# Altium footprint library TR8.PcbLib: 78 footprints (part 2 of 5)
Each footprint in its own frame and in the unit in brackets; x right, y up, seen from the top. Pads: shape width x height; smd on the part's side, far side on the other; paste and mask are expansions set on the pad; w line width, h text height; cw(c..) or ccw(c..) is an arc to the next point about the centre after c.
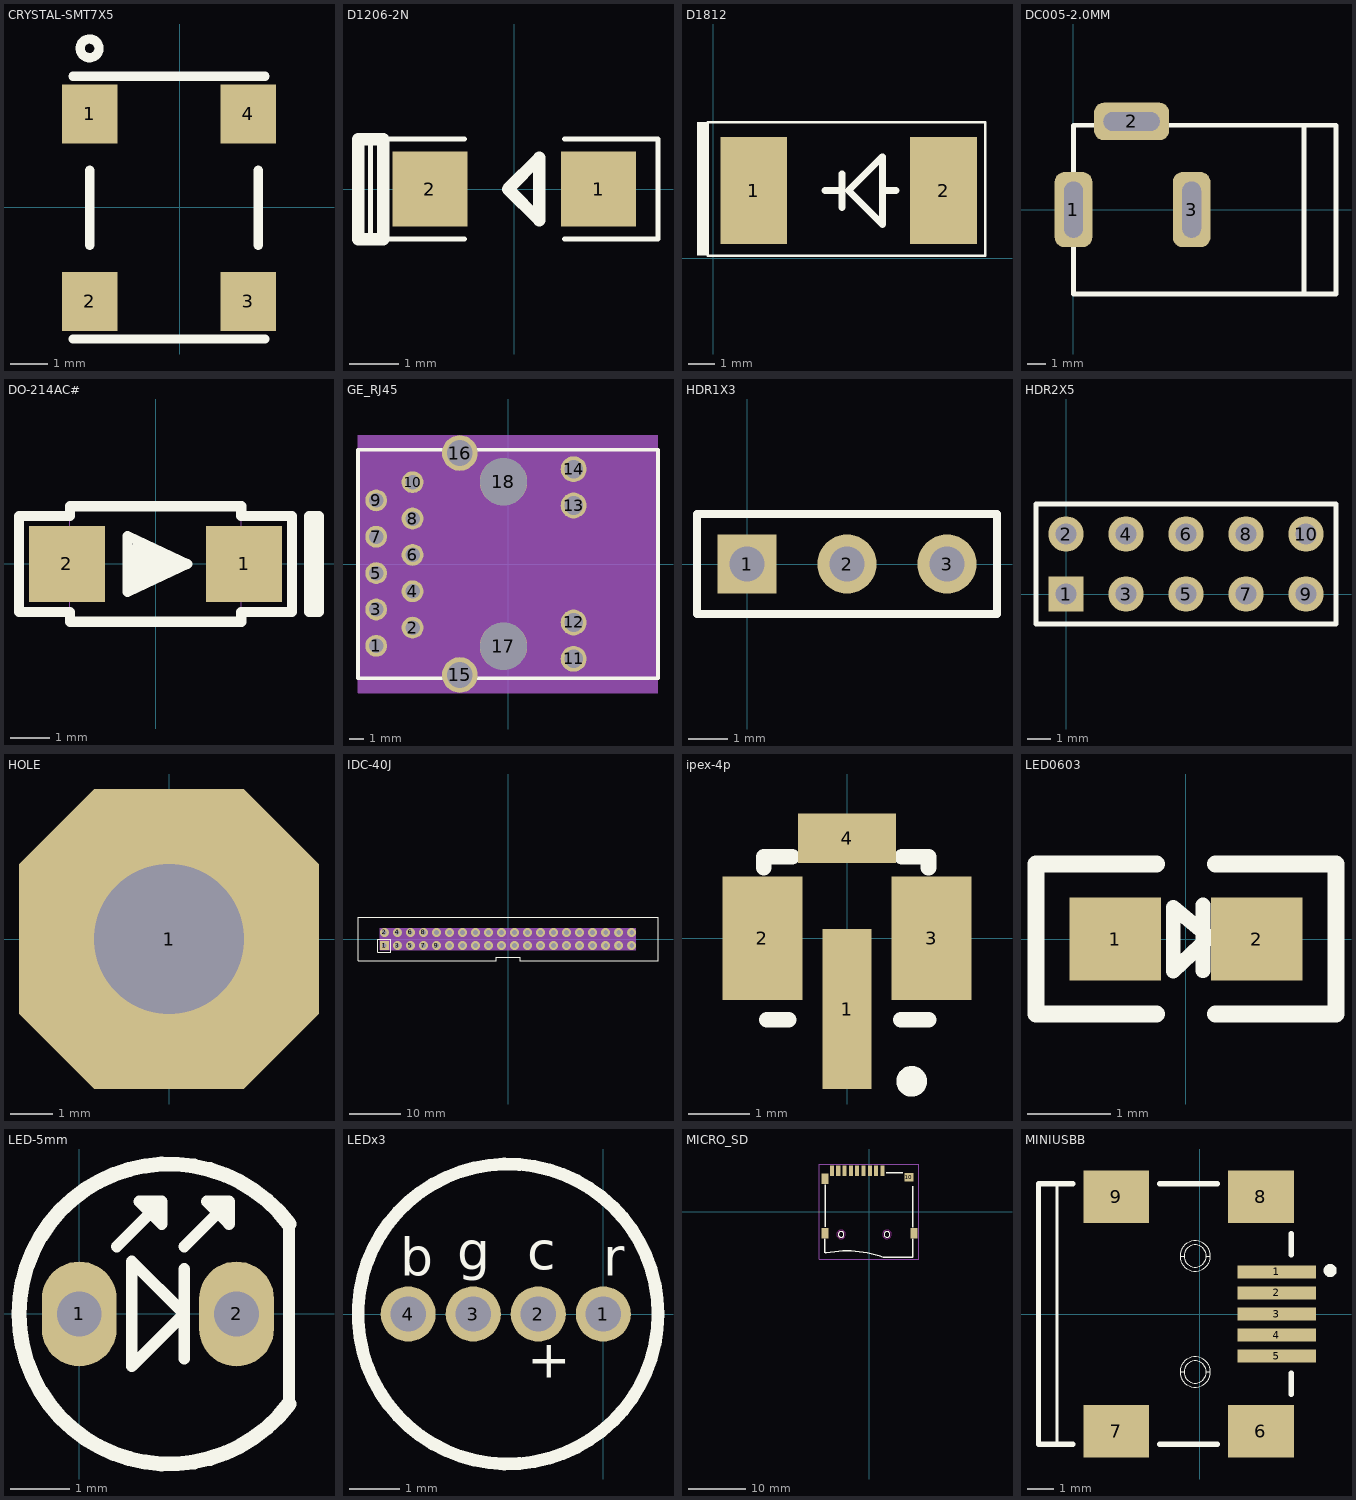
[diagram p1: the footprints below, top view; thin cyan lines are the x and y axes]

## CRYSTAL-SMT7X5 [mm]
pads (4):
  rect 1.5x1.6 smd: 1(-2.438,2.527) 2(-2.438,-2.553) 3(1.862,-2.553) 4(1.862,2.527)
Top Overlay:
  circle w0.25: c-2.438,4.303 r0.254
  lines w0.254: -2.888,-3.569 2.312,-3.569 ; -2.888,3.543 2.312,3.543 ; -2.438,-1.029 -2.438,1.003 ; 2.134,-1.029 2.134,1.003

## D1206-2N [mil] ",Pin2-Negative"
height 39.37
pads (2):
  rect 60x60 smd: 1(67.5,0) 2(-67.5,0)
Top Overlay:
  lines w4: -40,-40 -115,-40 -115,40 -40,40 ; 40,-40 115,-40 115,40 40,40
  lines w10: -125,-40 -105,-40 -105,40 -125,40 -125,-40 ; -5,0 20,25 20,-25 -5,0

## D1812 [mm] ",Pin1-Negative"
pads (2):
  rect 2.5x4 smd: 1(1.524,2.54) 2(8.636,2.54)
Top Overlay:
  rectangle: -0.6,0.1 -0.2,5.1
  lines w0.102: -0.2,0.1 3.3,0.1 10.2,0.1 10.2,5.1 3.3,5.1 0.1,5.1 -0.2,5.1 -0.2,0.1
  lines w0.254: 4.191,2.54 4.826,2.54 ; 4.826,1.905 4.826,3.175 ; 6.35,2.54 6.858,2.54 ; 5.08,2.54 6.35,3.81 6.35,1.27 5.08,2.54

## DC005-2.0MM [mm] "DC005-2.0"
pads (3):
  rrect50% 2x4 hole 3 slot 1 at 0 deg: 1(0,0) 3(6.3,0)
  rrect50% 4x2 hole 3 slot 1 at 90 deg: 2(3.1,4.7)
Top Overlay:
  lines w0.254: 12.3,-4.5 12.3,4.5 ; 0,-4.5 0,4.5 14,4.5 14,-4.5 0,-4.5

## DO-214AC# [mil] "Pin1负，高1.91-2.67"
height 90.16
pads (2):
  rect 75x75 smd: 1(87.5,0) 2(-87.5,0)
Top Overlay:
  lines w10: -18.11,-21.65 -18.11,-4.33 -14.96,-13.78 -5.91,-6.3 15.35,-6.3 -24.02,2.76 20.87,2.76 7.28,10.83 -24.02,10.83 -16.24,18.6 ; -134.84,-47.24 -84.65,-47.24 -84.65,-57.09 84.65,-57.09 84.65,-47.24 134.84,-47.24 134.84,47.24 84.65,47.24 84.65,57.09 -84.65,57.09 -84.65,47.24 -134.84,47.24 -134.84,-47.24 ; -27.56,-27.56 31.5,0 -27.56,27.56 -27.56,-27.56 ; 151.57,-47.24 161.42,-47.24 161.42,47.24 151.57,47.24 151.57,-47.24
Mechanical 16:
  lines w1: -98.43,-29.53 -98.43,29.53 -51.18,29.53 -51.18,-29.53 -98.43,-29.53 ; -84.65,-53.15 -84.65,53.15 84.65,53.15 84.65,-53.15 -84.65,-53.15 ; 51.18,-29.53 51.18,29.53 98.43,29.53 98.43,-29.53 51.18,-29.53
  lines w1.97: 0,3.94 0,0 3.94,0
3D body "DO-214AC.STEP": height 94.49, standoff 0, extent -91.05,-53.08 90.05,53.22

## GE_RJ45 [mil] "GE_RJ45"
pads (18):
  round 60 hole 40: 1(-362.5,-225.01) 2(-262.5,-175.01) 3(-362.5,-125.01) 4(-262.5,-75.01) 5(-362.5,-25.01) 6(-262.5,24.99) 7(-362.5,74.99) 8(-262.5,124.99) 9(-362.5,174.99) 10(-262.5,224.99)
  round 70.87 hole 51.18: 11(180.41,-260.82) 12(180.41,-160.82) 13(180.41,160.82) 14(180.41,260.82)
  round 98 hole 70.87: 15(-132.58,-305.12) 16(-132.58,305.11)
  round 129.92 hole 129.92: 17(-12.5,-225.99) 18(-12.5,225.98)
Top Overlay:
  lines w10: -412.5,-314.01 412.5,-314.01 412.5,313.99 -412.5,313.99 -412.5,-314.01
Mechanical 10:
  text "P1" at -382.5,-225.01 h25
  text "13" at 160.41,160.82 h25
  text "11" at 160.41,-260.83 h25
  text "17" at -32.5,-225.99 h25
  text "18" at -32.5,225.98 h25
  text "14" at 160.41,260.82 h25
  text "16" at -152.58,305.11 h25
  text "P10" at -292.5,224.99 h25
  text "12" at 160.41,-160.83 h25
  text "15" at -152.58,-305.12 h25
  text "P8" at -282.5,124.99 h25
  text "P4" at -282.5,-75.01 h25
  text "P7" at -382.5,74.99 h25
  text "P9" at -382.5,174.99 h25
  text "P2" at -282.5,-175.01 h25
  text "P5" at -382.5,-25.01 h25
  text "P3" at -382.5,-125.01 h25
  text "P6" at -282.5,24.99 h25
Mechanical 12:
  region: 412.5,-354.12 412.5,354.12 -412.5,354.12 -412.5,-354.12
Mechanical 13:
  lines w1: -412.5,-354.12 -412.5,354.12 412.5,354.12 412.5,-354.12 -412.5,-354.12
  text ".Designator" at -36.5,1.01 h25
3D body: height 150, standoff 0, extent -412.5,-354.12 412.5,354.12

## HDR1X3 [mm] "Connector; Header; 3 Position"
pads (3):
  rect 1.5x1.5 hole 0.9: 1(0,0)
  round 1.5 hole 0.9: 2(2.54,0) 3(5.08,0)
Top Overlay:
  lines w0.2: -1.27,-1.27 6.35,-1.27 6.35,1.27 -1.27,1.27 -1.27,-1.27

## HDR2X5 [mm] "Connector; Header; 5x2 Position"
pads (10):
  rect 1.5x1.5 hole 0.9: 1(0,0)
  round 1.5 hole 0.9: 2(0,2.54) 3(2.54,0) 4(2.54,2.54) 5(5.08,0) 6(5.08,2.54) 7(7.62,0) 8(7.62,2.54) 9(10.16,0) 10(10.16,2.54)
Top Overlay:
  lines w0.2: -1.27,-1.27 -1.27,3.81 11.43,3.81 11.43,-1.27 -1.27,-1.27
  text ".Designator" at 4.65,4.806 h0.64
Mechanical 10:
  text "8" at 2.579,4.45 h0.64
  text "9" at -2.921,4.45 h0.64
  text "6" at 2.579,-4.45 h0.64
  text "5" at 3.179,-1.6 h0.64
  text "7" at -2.921,-4.45 h0.64
  text "1" at 3.179,1.6 h0.64
  text "2" at 3.179,0.8 h0.64
  text "3" at 3.179,0 h0.64
  text "4" at 3.179,-0.8 h0.64

## HOLE [mm]
pads (1):
  oct 7x7 hole 3.5: 1(0,0)

## IDC-40J [mil] "IDC-40J"
pads (40):
  rect 68x68 hole 35: 1(-950,-50)
  round 68 hole 35: 2(-950,50) 3(-850,-50) 4(-850,50) 5(-750,-50) 6(-750,50) 7(-650,-50) 8(-650,50) 9(-550,-50) 10(-550,50) 11(-450,-50) 12(-450,50) 13(-350,-50) 14(-350,50) 15(-250,-50) 16(-250,50) 17(-150,-50) 18(-150,50) 19(-50,-50) 20(-50,50) 21(50,-50) 22(50,50) 23(150,-50) 24(150,50) 25(250,-50) 26(250,50) 27(350,-50) 28(350,50) 29(450,-50) 30(450,50) 31(550,-50) 32(550,50) 33(650,-50) 34(650,50) 35(750,-50) 36(750,50) 37(850,-50) 38(850,50) 39(950,-50) 40(950,50)
Top Overlay:
  lines w5: -1153.54,-166.54 -91.54,-166.54 -91,-140 90.02,-140 90.55,-166.54 1153.54,-166.54 1153.54,166.54 -1153.54,166.54 -1153.54,-166.54 ; -1000,-100 -1000,0 -900,0 -900,-100 -1000,-100
Mechanical 10:
  text "18" at -130,50 h25
  text "17" at -130,-50 h25
  text "34" at 670,50 h25
  text "33" at 670,-50 h25
  text "31" at 570,-50 h25
  text "16" at -230,50 h25
  text "11" at -430,-50 h25
  text "6" at -740,50 h25
  text "26" at 270,50 h25
  text "12" at -430,50 h25
  text "13" at -330,-50 h25
  text "28" at 370,50 h25
  text "20" at -30,50 h25
  text "5" at -740,-50 h25
  text "35" at 770,-50 h25
  text "29" at 470,-50 h25
  text "23" at 170,-50 h25
  text "36" at 770,50 h25
  text "27" at 370,-50 h25
  text "15" at -230,-50 h25
  text "14" at -330,50 h25
  text "32" at 570,50 h25
  text "19" at -30,-50 h25
  text "7" at -640,-50 h25
  text "25" at 270,-50 h25
  text "10" at -530,50 h25
  text "8" at -640,50 h25
  text "4" at -840,50 h25
  text "22" at 70,50 h25
  text "24" at 170,50 h25
  text "9" at -540,-50 h25
  text "30" at 470,50 h25
  text "3" at -840,-50 h25
  text "21" at 70,-50 h25
  text "2" at -940,50 h25
  text "39" at 970,-50 h25
  text "40" at 970,50 h25
  text "1" at -940,-50 h25
  text "37" at 870,-50 h25
  text "38" at 870,50 h25
Mechanical 12:
  region: -984,-84 984,-84 984,84 -984,84
Mechanical 13:
  lines w1: -984,-84 984,-84 984,84 -984,84 -984,-84
  text ".Designator" at -27,-2 h25
3D body: height 150, standoff 0, extent -984,-84 984,84

## ipex-4p [mm] "4 pin,pad pitch 2.6mm,cylinder 2mm"
height 1.25
pads (4):
  rect 0.8x2.6 smd: 1(0,-1.15)
  rect 1.3x2 smd: 2(-1.375,0) 3(1.375,0)
  rect 1.6x0.8 smd: 4(0,1.625)
Top Overlay:
  circle w0.25: c1.05,-2.325 r0.125
  lines w0.254: -1.35,1.143 -1.35,1.325 -0.889,1.325 ; -1.3,-1.325 -0.95,-1.325 ; 0.875,-1.325 1.325,-1.325 ; 0.889,1.325 1.325,1.325 1.325,1.143

## LED0603 [mm]
pads (2):
  rect 1.1x1 smd: 1(-0.85,0) 2(0.85,0)
Top Overlay:
  lines w0.178: 0.203,-0.381 0.203,0.406 ; -0.152,-0.383 -0.152,0.379 0.279,0.023 -0.152,-0.383
  lines w0.2: -0.35,-0.9 -1.8,-0.9 -1.8,0.9 -0.35,0.9 ; 0.35,-0.9 1.8,-0.9 1.8,0.9 0.35,0.9

## LED-5mm [mil] "dip,2pin, pitch 2.7mm, diam 5mm"
height 314.96
pads (2):
  oval 50x70 hole 30: 1(0,0) 2(105,0)
Top Overlay:
  lines w7.78: 25,45 55,75 ; 70,-30 70,30 ; 70,45 100,75 ; 140,-60.15 140,60 ; 55,75 40,75 55,60 55,75 ; 100,75 85,75 100,60 100,75 ; 35,-35 70,0 35,35 35,-35
  lines w10: 140,-60.15 cw(c59.9,-0.07) 140,60

## LEDx3 [mm] "3 in 1 ball,5.8x8.8mm"
height 8.7
pads (4):
  round 1.1 hole 0.7: 1(0,0) 2(-1.3,0) 3(-2.6,0) 4(-3.9,0)
Top Overlay:
  circle w0.254: c-1.905,0 r3
  text "r" at 0,0.762 h0.76
  text "c" at -1.524,0.889 h0.76
  text "g" at -2.921,0.889 h0.76
  text "b" at -4.064,0.762 h0.76
  text "+" at -1.524,-1.27 h0.76

## MICRO_SD [mil] "MICRO_SD"
pads (13):
  rect 27.56x70.87 smd: 1(92,280.5) 2(48.69,280.5) 3(5.39,280.5) 4(-37.92,280.5) 5(-81.23,280.5) 6(-124.54,280.5) 7(-167.84,280.5) 8(-211.15,280.5) 9(-254.46,280.5)
  rect 62.99x59.06 smd: 10(273.1,235.22)
  rect 47.24x70.87 smd: 11(-301.7,225.38) 12(-301.7,-148.63) 13(308.54,-148.63)
Top Overlay:
  circle w5: c123.5,-156.51 r19.68
  circle w5: c-191.46,-156.51 r19.68
  lines w10: -302.46,-281.5 -302.46,-187.5 ; -300.46,-283.5 -292.46,-283.5 cw(c-151.13,-1000.55) 98.06,-313.5 301.54,-313.5 ; -300.46,-105.5 -300.46,184.5 ; 119.54,266.5 231.54,266.5 ; 301.54,-311.5 301.54,-185.5 ; 301.54,-107.5 301.54,172.5
  text ".Designator" at 343.86,182.2 h25
Keep-Out Layer:
  circle w1: c-191.46,-156.51 r19.64
Mechanical 10:
  text "8" at -211.15,290.5 h25
  text "9" at -254.46,290.5 h25
  text "3" at 5.39,290.5 h25
  text "2" at 48.69,290.5 h25
  text "1" at 92,290.5 h25
  text "7" at -167.84,290.5 h25
  text "5" at -81.23,290.5 h25
  text "4" at -37.92,290.5 h25
  text "6" at -124.54,290.5 h25
  text "13" at 308.54,-128.63 h25
Mechanical 12:
  lines w1: -342,-326.5 -342,326.5 342,326.5 342,-326.5 -342,-326.5
Multi-Layer keep-out:
  circle w1: c123.5,-156.51 r29.64
  circle w1: c-191.46,-156.51 r29.64

## MINIUSBB [mm] "MINIUSBB"
pads (9):
  rect 3x0.5 smd: 1(2.925,1.6) 2(2.925,0.8) 3(2.925,0) 4(2.925,-0.8) 5(2.925,-1.6)
  rect 2.5x2 smd: 6(2.325,-4.45) 7(-3.175,-4.45) 8(2.325,4.45) 9(-3.175,4.45)
Top Overlay:
  circle w0.25: c4.953,1.651 r0.125
  lines w0.025: 0.249,-2.2 cw(c-0.175,-2.2) -0.599,-2.2 cw(c-0.175,-2.2) 0.249,-2.2 ; 0.249,-2.2 0.401,-2.2 ; 0.249,-2.2 0.401,-2.2 ; 0.249,2.2 cw(c-0.175,2.2) -0.599,2.2 cw(c-0.175,2.2) 0.249,2.2 ; 0.249,2.2 0.401,2.2 ; 0.249,2.2 0.401,2.2 ; 0.401,-2.2 cw(c-0.175,-2.2) -0.751,-2.2 cw(c-0.175,-2.2) 0.401,-2.2 ; 0.401,2.2 cw(c-0.175,2.2) -0.751,2.2 cw(c-0.175,2.2) 0.401,2.2 ; -0.751,-2.2 -0.599,-2.2 -0.751,-2.2 ; -0.751,2.2 -0.599,2.2 -0.751,2.2
  lines w0.1: -5.425,-4.95 -5.425,4.95
  lines w0.2: -4.825,-4.95 -6.125,-4.95 -6.125,4.95 -4.825,4.95 ; -1.525,-4.95 0.675,-4.95 ; -1.525,4.95 0.675,4.95 ; 3.475,-3.05 3.475,-2.25 ; 3.475,2.25 3.475,3.05
Mechanical 9:
  text "3" at 2.925,-0.254 h0.64
  text "1" at 2.925,1.346 h0.64
  text "2" at 2.925,0.546 h0.64
  text "5" at 2.925,-1.854 h0.64
  text "6" at 2.325,-4.704 h0.64
  text "8" at 2.325,4.196 h0.64
  text "7" at -3.175,-4.704 h0.64
  text "9" at -3.175,4.196 h0.64
  text "4" at 2.925,-1.054 h0.64